# Altium schematic symbol library microchip-driver.SchLib: 2 symbols
Pins are listed as number, name and electrical type; pins without a type are passive.

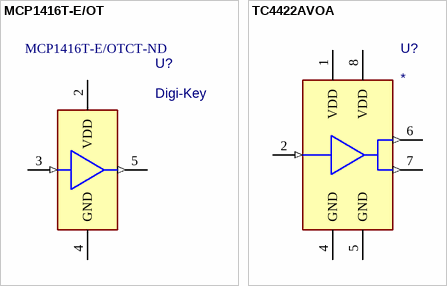
[diagram p0: symbols MCP1416T-E/OT to TC4422AVOA]

## MCP1416T-E/OT
designator U?, comment Digi-Key  Supplier Part Number 1: MCP1416T-E/OTCT-ND
Tiny 1.5A, High-Speed Power MOSFET Driver; Value: MCP1416T-E/OTCT-ND; Supplier 1: Digi-Key; PN: *; Package: *; ExtraInfo: *
footprint SOT23-5 (5-Lead Plastic Small Outline Transistor)
pins: 2 VDD (power), 3 IN (in), 4 GND (power), 5 OUT (out)

## TC4422AVOA
designator U?
9A, High-Speed MOSFET Driver; Value: TC4422AVOA; Supplier 1: Digi-Key; Supplier Part Number 1: TC4422AVOA-ND; ExtraInfo: *; PN: *; Package: SOIC-8
footprint SOIC-8 (SOIC, 8-Leads, Body 5.0x4.0mm (max), Pitch 1.27mm, IPC Medium Density)
pins: 1 VDD (power), 2 IN (in), 4 GND (power), 5 GND (power), 6 OUT (out), 7 OUT (out), 8 VDD (power)